# EAGLE library part 61303621821 (library Wuerth_Elektronik_eiCan_Pin_&_Socked_Headers_v1.3)
WR-PHD 2.54mm Dual Socket Header, 36 Pins
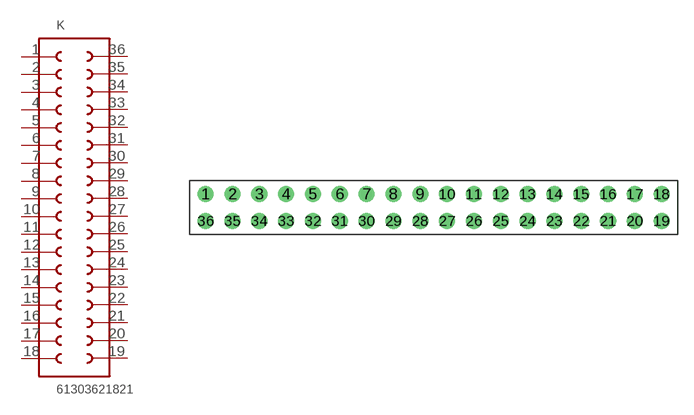
[diagram p142: symbol with the pads of 61303621821; footprint 61303621821]

Designator prefix K

## 61303621821  [61303621821]
1  1  pas
2  2  pas
3  3  pas
4  4  pas
5  5  pas
6  6  pas
7  7  pas
8  8  pas
9  9  pas
10  10  pas
11  11  pas
12  12  pas
13  13  pas
14  14  pas
15  15  pas
16  16  pas
17  17  pas
18  18  pas
19  19  pas
20  20  pas
21  21  pas
22  22  pas
23  23  pas
24  24  pas
25  25  pas
26  26  pas
27  27  pas
28  28  pas
29  29  pas
30  30  pas
31  31  pas
32  32  pas
33  33  pas
34  34  pas
35  35  pas
36  36  pas

## Footprint 61303621821 (pad centres in mm)
WR-PHD 2.54mm Dual Socket Header, 36 Pins
drill 1.02 round: 1 -21.59,1.27; 2 -19.05,1.27; 3 -16.51,1.27; 4 -13.97,1.27; 5 -11.43,1.27; 6 -8.89,1.27; 7 -6.35,1.27; 8 -3.81,1.27; 9 -1.27,1.27; 10 1.27,1.27; 11 3.81,1.27; 12 6.35,1.27; 13 8.89,1.27; 14 11.43,1.27; 15 13.97,1.27; 16 16.51,1.27; 17 19.05,1.27; 18 21.59,1.27; 19 21.59,-1.27; 20 19.05,-1.27; 21 16.51,-1.27; 22 13.97,-1.27; 23 11.43,-1.27; 24 8.89,-1.27; 25 6.35,-1.27; 26 3.81,-1.27; 27 1.27,-1.27; 28 -1.27,-1.27; 29 -3.81,-1.27; 30 -6.35,-1.27; 31 -8.89,-1.27; 32 -11.43,-1.27; 33 -13.97,-1.27; 34 -16.51,-1.27; 35 -19.05,-1.27; 36 -21.59,-1.27